# EAGLE library part IRF5851 (library X893)
http://www.terraelectronica.ru/pdf/IR/IRF5851.pdf
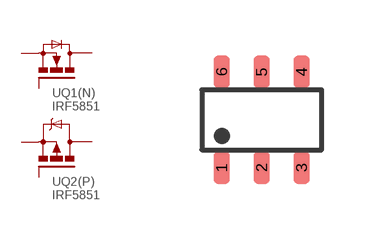
[diagram p114: symbol with the pads of TSOP6; footprint TSOP6]

Designator prefix U; gates Q1(N)=MFET-N Q2(P)=MFET-P

## IRF5851-TSOP6  [TSOP6]
1  Q1(N):G  pas
2  Q2(P):S  pas
3  Q2(P):G  pas
4  Q2(P):D  pas
5  Q1(N):S  pas
6  Q1(N):D  pas

## Footprint TSOP6 (pad centres in mm)
smd 0.4 x 0.8: 1 -1,-1.2; 2 0,-1.2; 3 1,-1.2; 4 1,1.2; 5 0,1.2; 6 -1,1.2